# Altium schematic symbol library TPS6107x.Schlib: 1 symbol
Pins are listed as number, name and electrical type; pins without a type are passive.

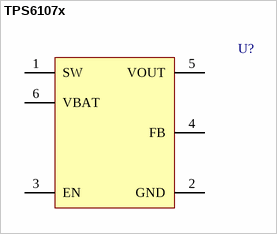
[diagram p0: symbol TPS6107x]

## TPS6107x
designator U?
pins: 1 SW, 2 GND, 3 EN, 4 FB (power), 5 VOUT, 6 VBAT